# Altium integrated library Linear Technology PMIC-Switching Reg LTC1174-LTC3901.IntLib: 2647 symbols (part 193 of 310)
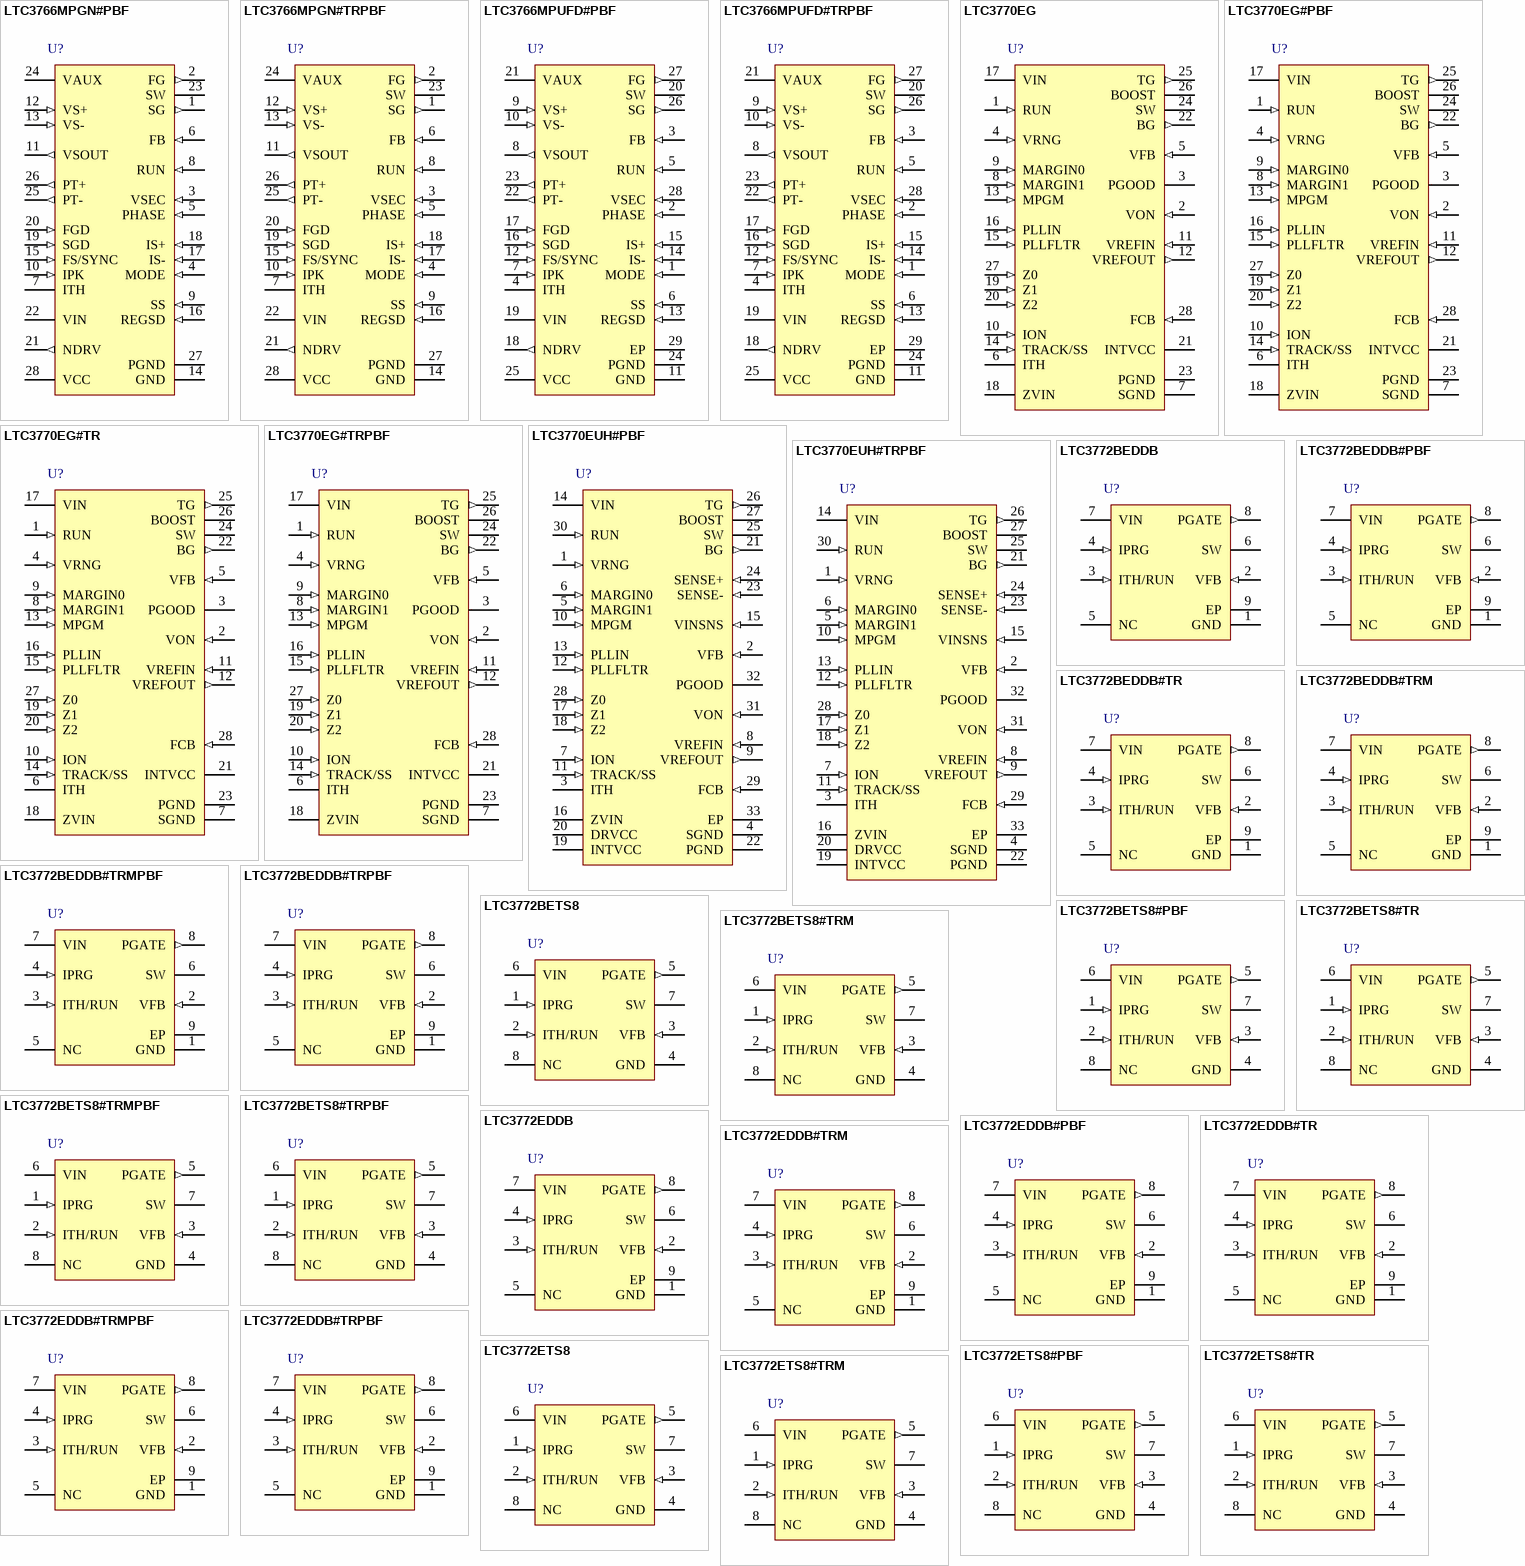
[diagram p228: symbols LTC3766MPGN#PBF to LTC3772ETS8#TRM]

## LTC3766MPGN#PBF
designator U?
High Efficiency, Secondary-Side Synchronous Forward Controller, 28-pin SOP (GN-28), -55 to 150 degC, Pb-Free; Manufacturer: Linear Technology; PartNumber: LTC3766MPGN#PBF; Number of Outputs: 1; PackageReference: GN-28; PackageDescription: 28-Pin Plastic SSOP, Body 9.9 x 3.9 mm, Pitch 0.635 mm; Supplier 1: Digi-Key; Supplier Part Number 1: LTC3766MPGN#PBF-ND; RoHS: TRUE
footprint LT-GN-28_N (SOP, 28-Leads, Body 9.98x3.98mm, Pitch 0.635mm, IPC Medium Density)
footprint LT-GN-28_L (SOP, 28-Leads, Body 9.98x3.98mm, Pitch 0.635mm, IPC High Density)
footprint LT-GN-28_M (SOP, 28-Leads, Body 9.98x3.98mm, Pitch 0.635mm, IPC Low Density)
pins: 1 SG (out) "Gate Drive for the Synchronous MOSFET", 2 FG (out) "Gate Drive for the Forward MOSFET", 3 VSEC (in) "Volt-Second Limit. Connect a resistor from SW to VSEC, and a capacitor from VSEC to GND to set the maximum volt-second product that is applied to the main power transformer. The PWM on-time is terminated when the VSEC (See Datasheet)", 4 MODE (in) "For normal isolated applications using the LTC3765, tie to either GND or VCC to set the operating voltage to either low voltage or high voltage modes respectively, as needed to drive the gates of the synchronous and forward (See Datasheet)", 5 PHASE (in) "Control Input to the Phase Selector. This pin determines the phasing of the internal controller CLK relative to the synchronizing signal at the FS/SYNC pin.", 6 FB (in) "The Inverting Input of the Main Loop Error Amplifier. Tie to VCC to enable slave mode in PolyPhase applications.", 7 ITH "The Output of the Main Loop Error Amplifier. Place compensation components between the ITH pin and GND.", 8 RUN (in) "Run Control Input. Holding this pin below 1.22V will shut down the IC and reset the soft-start and REGSD pins to 0V.", 9 SS (in) "Soft-Start Inputs. A capacitor to ground sets the ramp time of the output voltage", 10 IPK (in) "Peak Current Limit Inductor Ripple Cancellation. This pin is used to adjust the peak current limit based on the amount of inductor current ripple, thereby providing a constant average output current during current limit. (See Datasheet)", 11 VSOUT (out) "VSOUT is the output of a precision, unity-gain differential amplifier. Tie VS+ and VS- to the output of the main DC/DC converter to achieve true remote differential sensing. Also, VS+ is used for directly sensing the output (See Datasheet)", 12 VS+ (in) "VSOUT is the output of a precision, unity-gain differential amplifier. Tie VS+ and VS- to the output of the main DC/DC converter to achieve true remote differential sensing. Also, VS+ is used for directly sensing the output (See Datasheet)", 13 VS- (in) "VSOUT is the output of a precision, unity-gain differential amplifier. Tie VS+ and VS- to the output of the main DC/DC converter to achieve true remote differential sensing. Also, VS+ is used for directly sensing the output (See Datasheet)", 14 GND (power) "Signal Ground and Kelvin Sense for SG Reverse Overcurrent. Connect to power ground at the source of the synchronous MOSFET. The exposed pad must be soldered to PCB ground for rated thermal performance.", 15 FS/SYNC (in) "Combination Frequency Set and Sync Pin. Tie to VCC to run at 275kHz. Place a resistor to ground at this pin to set the frequency between 75kHz and 500kHz. To synchronize, drive this pin with a clock signal to achieve PLL (See Datasheet)", 16 REGSD (in) "Regulator Shutdown Timer. Place a capacitor to ground to limit the time allowed for the high voltage linear regulator controller to operate. When the REGSD voltage exceeds 1.21V, the linear regulator is shut down. This pin (See Datasheet)", 17 IS- (in) "Negative Input to the Current Sense Circuit. Connect to the negative end of a low side current sense resistor. When using a current sense transformer, tie this pin to VCC for single-ended sensing on IS+ with a higher maximum (See Datasheet)", 18 IS+ (in) "Positive Input to the Current Sense Circuit. Connect to the positive end of a low side current sense resistor or to the output of a current sense transformer.", 19 SGD (in) "Synchronous Gate Rising Edge Delay. A resistor to GND sets the delay from primary gate turnoff (PT+ falling) to SG rising (and FG falling). This delay is used to optimize the dead time between the turn-off of the (See Datasheet)", 20 FGD (in) "Forward Gate Rising Edge Delay. A resistor to GND sets the delay from PT+ rising to FG rising (and SG falling). This delay is used to optimize the dead time between the turn-off of SG and the turn-on of theprimary-side (See Datasheet)", 21 NDRV (out) "Drive Output for the External Pass Device of the High Voltage Linear Regulator Controller. Connect to the base (NPN) or gate (MOSFET) of an external N-type device. Tie to VCC pin if only using the internal LDO (VAUX pin).", 22 VIN (power) "Connect to a higher voltage bias supply when using the linear regulator controller. The VIN pin supplies bias to the internal standby and monitoring circuits, the linear regulator controller, and the differential amplifier. (See Datasheet)", 23 SW "Connect (Kelvin) to the drain of the synchronous MOSFET. This input is used for adaptive shoot-through prevention and leading-edge blanking, monitoring the high level SW node voltage and SG reversecurrent protection. When SW (See Datasheet)", 24 VAUX (power) "Auxiliary Power Input. This is the power input to an internal LDO that is connected to VCC. Whenever VAUX is greater than 4.7V (or 8V for high voltage mode), this LDO will supply power to VCC, bypassing the main linear (See Datasheet)", 25 PT- (out) "Pulse Transformer Driver Outputs. For most applications, these connect to a pulse transformer through a series DC-blocking capacitor. The PWM information is multiplexed together with DC power and sent through the pulse (See Datasheet)", 26 PT+ (out) "Pulse Transformer Driver Outputs. For most applications, these connect to a pulse transformer through a series DC-blocking capacitor. The PWM information is multiplexed together with DC power and sent through the pulse (See Datasheet)", 27 PGND (power) "Gate Driver Ground Pin. Connect to power ground at the source of the synchronous MOSFET.", 28 VCC (power) "Main VCC Input for All Driver and Control Circuitry."

## LTC3766MPGN#TRPBF
designator U?
High Efficiency, Secondary-Side Synchronous Forward Controller, 28-pin SOP (GN-28), -55 to 150 degC, Pb-Free, Tape and Reel; Manufacturer: Linear Technology; PartNumber: LTC3766MPGN#TRPBF; Number of Outputs: 1; PackageReference: GN-28; PackageDescription: 28-Pin Plastic SSOP, Body 9.9 x 3.9 mm, Pitch 0.635 mm; Supplier 1: Digi-Key; Supplier Part Number 1: LTC3766MPGN#TRPBF-ND; RoHS: TRUE
footprint LT-GN-28_N (SOP, 28-Leads, Body 9.98x3.98mm, Pitch 0.635mm, IPC Medium Density)
footprint LT-GN-28_L (SOP, 28-Leads, Body 9.98x3.98mm, Pitch 0.635mm, IPC High Density)
footprint LT-GN-28_M (SOP, 28-Leads, Body 9.98x3.98mm, Pitch 0.635mm, IPC Low Density)
pins: 1 SG (out) "Gate Drive for the Synchronous MOSFET", 2 FG (out) "Gate Drive for the Forward MOSFET", 3 VSEC (in) "Volt-Second Limit. Connect a resistor from SW to VSEC, and a capacitor from VSEC to GND to set the maximum volt-second product that is applied to the main power transformer. The PWM on-time is terminated when the VSEC (See Datasheet)", 4 MODE (in) "For normal isolated applications using the LTC3765, tie to either GND or VCC to set the operating voltage to either low voltage or high voltage modes respectively, as needed to drive the gates of the synchronous and forward (See Datasheet)", 5 PHASE (in) "Control Input to the Phase Selector. This pin determines the phasing of the internal controller CLK relative to the synchronizing signal at the FS/SYNC pin.", 6 FB (in) "The Inverting Input of the Main Loop Error Amplifier. Tie to VCC to enable slave mode in PolyPhase applications.", 7 ITH "The Output of the Main Loop Error Amplifier. Place compensation components between the ITH pin and GND.", 8 RUN (in) "Run Control Input. Holding this pin below 1.22V will shut down the IC and reset the soft-start and REGSD pins to 0V.", 9 SS (in) "Soft-Start Inputs. A capacitor to ground sets the ramp time of the output voltage", 10 IPK (in) "Peak Current Limit Inductor Ripple Cancellation. This pin is used to adjust the peak current limit based on the amount of inductor current ripple, thereby providing a constant average output current during current limit. (See Datasheet)", 11 VSOUT (out) "VSOUT is the output of a precision, unity-gain differential amplifier. Tie VS+ and VS- to the output of the main DC/DC converter to achieve true remote differential sensing. Also, VS+ is used for directly sensing the output (See Datasheet)", 12 VS+ (in) "VSOUT is the output of a precision, unity-gain differential amplifier. Tie VS+ and VS- to the output of the main DC/DC converter to achieve true remote differential sensing. Also, VS+ is used for directly sensing the output (See Datasheet)", 13 VS- (in) "VSOUT is the output of a precision, unity-gain differential amplifier. Tie VS+ and VS- to the output of the main DC/DC converter to achieve true remote differential sensing. Also, VS+ is used for directly sensing the output (See Datasheet)", 14 GND (power) "Signal Ground and Kelvin Sense for SG Reverse Overcurrent. Connect to power ground at the source of the synchronous MOSFET. The exposed pad must be soldered to PCB ground for rated thermal performance.", 15 FS/SYNC (in) "Combination Frequency Set and Sync Pin. Tie to VCC to run at 275kHz. Place a resistor to ground at this pin to set the frequency between 75kHz and 500kHz. To synchronize, drive this pin with a clock signal to achieve PLL (See Datasheet)", 16 REGSD (in) "Regulator Shutdown Timer. Place a capacitor to ground to limit the time allowed for the high voltage linear regulator controller to operate. When the REGSD voltage exceeds 1.21V, the linear regulator is shut down. This pin (See Datasheet)", 17 IS- (in) "Negative Input to the Current Sense Circuit. Connect to the negative end of a low side current sense resistor. When using a current sense transformer, tie this pin to VCC for single-ended sensing on IS+ with a higher maximum (See Datasheet)", 18 IS+ (in) "Positive Input to the Current Sense Circuit. Connect to the positive end of a low side current sense resistor or to the output of a current sense transformer.", 19 SGD (in) "Synchronous Gate Rising Edge Delay. A resistor to GND sets the delay from primary gate turnoff (PT+ falling) to SG rising (and FG falling). This delay is used to optimize the dead time between the turn-off of the (See Datasheet)", 20 FGD (in) "Forward Gate Rising Edge Delay. A resistor to GND sets the delay from PT+ rising to FG rising (and SG falling). This delay is used to optimize the dead time between the turn-off of SG and the turn-on of theprimary-side (See Datasheet)", 21 NDRV (out) "Drive Output for the External Pass Device of the High Voltage Linear Regulator Controller. Connect to the base (NPN) or gate (MOSFET) of an external N-type device. Tie to VCC pin if only using the internal LDO (VAUX pin).", 22 VIN (power) "Connect to a higher voltage bias supply when using the linear regulator controller. The VIN pin supplies bias to the internal standby and monitoring circuits, the linear regulator controller, and the differential amplifier. (See Datasheet)", 23 SW "Connect (Kelvin) to the drain of the synchronous MOSFET. This input is used for adaptive shoot-through prevention and leading-edge blanking, monitoring the high level SW node voltage and SG reversecurrent protection. When SW (See Datasheet)", 24 VAUX (power) "Auxiliary Power Input. This is the power input to an internal LDO that is connected to VCC. Whenever VAUX is greater than 4.7V (or 8V for high voltage mode), this LDO will supply power to VCC, bypassing the main linear (See Datasheet)", 25 PT- (out) "Pulse Transformer Driver Outputs. For most applications, these connect to a pulse transformer through a series DC-blocking capacitor. The PWM information is multiplexed together with DC power and sent through the pulse (See Datasheet)", 26 PT+ (out) "Pulse Transformer Driver Outputs. For most applications, these connect to a pulse transformer through a series DC-blocking capacitor. The PWM information is multiplexed together with DC power and sent through the pulse (See Datasheet)", 27 PGND (power) "Gate Driver Ground Pin. Connect to power ground at the source of the synchronous MOSFET.", 28 VCC (power) "Main VCC Input for All Driver and Control Circuitry."

## LTC3766MPUFD#PBF
designator U?
High Efficiency, Secondary-Side Synchronous Forward Controller, 28-pin QFN (UFD-28), -55 to 150 degC, Pb-Free; Manufacturer: Linear Technology; PartNumber: LTC3766MPUFD#PBF; Number of Outputs: 1; PackageReference: UFD-28; PackageDescription: 28-Pin Plastic QFN, Body 5 x 4 mm, Pitch 0.5 mm; Supplier 1: Digi-Key; Supplier Part Number 1: LTC3766MPUFD#PBF-ND; RoHS: TRUE; Code_JEDEC: MO-220
footprint LT-UFD-28_N (QFN, 28-Leads, Body 5.1x4.1mm, Pitch 0.5mm, Thermal Pad 3.65x2.65mm, IPC Medium Density)
footprint LT-UFD-28_L (QFN, 28-Leads, Body 5.1x4.1mm, Pitch 0.5mm, Thermal Pad 3.65x2.65mm, IPC High Density)
footprint LT-UFD-28_M (QFN, 28-Leads, Body 5.1x4.1mm, Pitch 0.5mm, Thermal Pad 3.65x2.65mm, IPC Low Density)
pins: 1 MODE (in) "For normal isolated applications using the LTC3765, tie to either GND or VCC to set the operating voltage to either low voltage or high voltage modes respectively, as needed to drive the gates of the synchronous and forward (See Datasheet)", 2 PHASE (in) "Control Input to the Phase Selector. This pin determines the phasing of the internal controller CLK relative to the synchronizing signal at the FS/SYNC pin.", 3 FB (in) "The Inverting Input of the Main Loop Error Amplifier. Tie to VCC to enable slave mode in PolyPhase applications.", 4 ITH "The Output of the Main Loop Error Amplifier. Place compensation components between the ITH pin and GND.", 5 RUN (in) "Run Control Input. Holding this pin below 1.22V will shut down the IC and reset the soft-start and REGSD pins to 0V.", 6 SS (in) "Soft-Start Inputs. A capacitor to ground sets the ramp time of the output voltage", 7 IPK (in) "Peak Current Limit Inductor Ripple Cancellation. This pin is used to adjust the peak current limit based on the amount of inductor current ripple, thereby providing a constant average output current during current limit. (See Datasheet)", 8 VSOUT (out) "VSOUT is the output of a precision, unity-gain differential amplifier. Tie VS+ and VS- to the output of the main DC/DC converter to achieve true remote differential sensing. Also, VS+ is used for directly sensing the output (See Datasheet)", 9 VS+ (in) "VSOUT is the output of a precision, unity-gain differential amplifier. Tie VS+ and VS- to the output of the main DC/DC converter to achieve true remote differential sensing. Also, VS+ is used for directly sensing the output (See Datasheet)", 10 VS- (in) "VSOUT is the output of a precision, unity-gain differential amplifier. Tie VS+ and VS- to the output of the main DC/DC converter to achieve true remote differential sensing. Also, VS+ is used for directly sensing the output (See Datasheet)", 11 GND (power) "Signal Ground and Kelvin Sense for SG Reverse Overcurrent. Connect to power ground at the source of the synchronous MOSFET. The exposed pad must be soldered to PCB ground for rated thermal performance.", 12 FS/SYNC (in) "Combination Frequency Set and Sync Pin. Tie to VCC to run at 275kHz. Place a resistor to ground at this pin to set the frequency between 75kHz and 500kHz. To synchronize, drive this pin with a clock signal to achieve PLL (See Datasheet)", 13 REGSD (in) "Regulator Shutdown Timer. Place a capacitor to ground to limit the time allowed for the high voltage linear regulator controller to operate. When the REGSD voltage exceeds 1.21V, the linear regulator is shut down. This pin (See Datasheet)", 14 IS- (in) "Negative Input to the Current Sense Circuit. Connect to the negative end of a low side current sense resistor. When using a current sense transformer, tie this pin to VCC for single-ended sensing on IS+ with a higher maximum (See Datasheet)", 15 IS+ (in) "Positive Input to the Current Sense Circuit. Connect to the positive end of a low side current sense resistor or to the output of a current sense transformer.", 16 SGD (in) "Synchronous Gate Rising Edge Delay. A resistor to GND sets the delay from primary gate turnoff (PT+ falling) to SG rising (and FG falling). This delay is used to optimize the dead time between the turn-off of the (See Datasheet)", 17 FGD (in) "Forward Gate Rising Edge Delay. A resistor to GND sets the delay from PT+ rising to FG rising (and SG falling). This delay is used to optimize the dead time between the turn-off of SG and the turn-on of theprimary-side (See Datasheet)", 18 NDRV (out) "Drive Output for the External Pass Device of the High Voltage Linear Regulator Controller. Connect to the base (NPN) or gate (MOSFET) of an external N-type device. Tie to VCC pin if only using the internal LDO (VAUX pin).", 19 VIN (power) "Connect to a higher voltage bias supply when using the linear regulator controller. The VIN pin supplies bias to the internal standby and monitoring circuits, the linear regulator controller, and the differential amplifier. (See Datasheet)", 20 SW "Connect (Kelvin) to the drain of the synchronous MOSFET. This input is used for adaptive shoot-through prevention and leading-edge blanking, monitoring the high level SW node voltage and SG reversecurrent protection. When SW (See Datasheet)", 21 VAUX (power) "Auxiliary Power Input. This is the power input to an internal LDO that is connected to VCC. Whenever VAUX is greater than 4.7V (or 8V for high voltage mode), this LDO will supply power to VCC, bypassing the main linear (See Datasheet)", 22 PT- (out) "Pulse Transformer Driver Outputs. For most applications, these connect to a pulse transformer through a series DC-blocking capacitor. The PWM information is multiplexed together with DC power and sent through the pulse (See Datasheet)", 23 PT+ (out) "Pulse Transformer Driver Outputs. For most applications, these connect to a pulse transformer through a series DC-blocking capacitor. The PWM information is multiplexed together with DC power and sent through the pulse (See Datasheet)", 24 PGND (power) "Gate Driver Ground Pin. Connect to power ground at the source of the synchronous MOSFET.", 25 VCC (power) "Main VCC Input for All Driver and Control Circuitry.", 26 SG (out) "Gate Drive for the Synchronous MOSFET", 27 FG (out) "Gate Drive for the Forward MOSFET", 28 VSEC (in) "Volt-Second Limit. Connect a resistor from SW to VSEC, and a capacitor from VSEC to GND to set the maximum volt-second product that is applied to the main power transformer. The PWM on-time is terminated when the VSEC (See Datasheet)", 29 EP (power) "Signal Ground and Kelvin Sense for SG Reverse Overcurrent. Connect to power ground at the source of the synchronous MOSFET. The exposed pad must be soldered to PCB ground for rated thermal performance."

## LTC3766MPUFD#TRPBF
designator U?
High Efficiency, Secondary-Side Synchronous Forward Controller, 28-pin QFN (UFD-28), -55 to 150 degC, Pb-Free, Tape and Reel; Manufacturer: Linear Technology; PartNumber: LTC3766MPUFD#TRPBF; Number of Outputs: 1; PackageReference: UFD-28; PackageDescription: 28-Pin Plastic QFN, Body 5 x 4 mm, Pitch 0.5 mm; Supplier 1: Digi-Key; Supplier Part Number 1: LTC3766MPUFD#TRPBF-ND; RoHS: TRUE; Code_JEDEC: MO-220
footprint LT-UFD-28_N (QFN, 28-Leads, Body 5.1x4.1mm, Pitch 0.5mm, Thermal Pad 3.65x2.65mm, IPC Medium Density)
footprint LT-UFD-28_L (QFN, 28-Leads, Body 5.1x4.1mm, Pitch 0.5mm, Thermal Pad 3.65x2.65mm, IPC High Density)
footprint LT-UFD-28_M (QFN, 28-Leads, Body 5.1x4.1mm, Pitch 0.5mm, Thermal Pad 3.65x2.65mm, IPC Low Density)
pins: 1 MODE (in) "For normal isolated applications using the LTC3765, tie to either GND or VCC to set the operating voltage to either low voltage or high voltage modes respectively, as needed to drive the gates of the synchronous and forward (See Datasheet)", 2 PHASE (in) "Control Input to the Phase Selector. This pin determines the phasing of the internal controller CLK relative to the synchronizing signal at the FS/SYNC pin.", 3 FB (in) "The Inverting Input of the Main Loop Error Amplifier. Tie to VCC to enable slave mode in PolyPhase applications.", 4 ITH "The Output of the Main Loop Error Amplifier. Place compensation components between the ITH pin and GND.", 5 RUN (in) "Run Control Input. Holding this pin below 1.22V will shut down the IC and reset the soft-start and REGSD pins to 0V.", 6 SS (in) "Soft-Start Inputs. A capacitor to ground sets the ramp time of the output voltage", 7 IPK (in) "Peak Current Limit Inductor Ripple Cancellation. This pin is used to adjust the peak current limit based on the amount of inductor current ripple, thereby providing a constant average output current during current limit. (See Datasheet)", 8 VSOUT (out) "VSOUT is the output of a precision, unity-gain differential amplifier. Tie VS+ and VS- to the output of the main DC/DC converter to achieve true remote differential sensing. Also, VS+ is used for directly sensing the output (See Datasheet)", 9 VS+ (in) "VSOUT is the output of a precision, unity-gain differential amplifier. Tie VS+ and VS- to the output of the main DC/DC converter to achieve true remote differential sensing. Also, VS+ is used for directly sensing the output (See Datasheet)", 10 VS- (in) "VSOUT is the output of a precision, unity-gain differential amplifier. Tie VS+ and VS- to the output of the main DC/DC converter to achieve true remote differential sensing. Also, VS+ is used for directly sensing the output (See Datasheet)", 11 GND (power) "Signal Ground and Kelvin Sense for SG Reverse Overcurrent. Connect to power ground at the source of the synchronous MOSFET. The exposed pad must be soldered to PCB ground for rated thermal performance.", 12 FS/SYNC (in) "Combination Frequency Set and Sync Pin. Tie to VCC to run at 275kHz. Place a resistor to ground at this pin to set the frequency between 75kHz and 500kHz. To synchronize, drive this pin with a clock signal to achieve PLL (See Datasheet)", 13 REGSD (in) "Regulator Shutdown Timer. Place a capacitor to ground to limit the time allowed for the high voltage linear regulator controller to operate. When the REGSD voltage exceeds 1.21V, the linear regulator is shut down. This pin (See Datasheet)", 14 IS- (in) "Negative Input to the Current Sense Circuit. Connect to the negative end of a low side current sense resistor. When using a current sense transformer, tie this pin to VCC for single-ended sensing on IS+ with a higher maximum (See Datasheet)", 15 IS+ (in) "Positive Input to the Current Sense Circuit. Connect to the positive end of a low side current sense resistor or to the output of a current sense transformer.", 16 SGD (in) "Synchronous Gate Rising Edge Delay. A resistor to GND sets the delay from primary gate turnoff (PT+ falling) to SG rising (and FG falling). This delay is used to optimize the dead time between the turn-off of the (See Datasheet)", 17 FGD (in) "Forward Gate Rising Edge Delay. A resistor to GND sets the delay from PT+ rising to FG rising (and SG falling). This delay is used to optimize the dead time between the turn-off of SG and the turn-on of theprimary-side (See Datasheet)", 18 NDRV (out) "Drive Output for the External Pass Device of the High Voltage Linear Regulator Controller. Connect to the base (NPN) or gate (MOSFET) of an external N-type device. Tie to VCC pin if only using the internal LDO (VAUX pin).", 19 VIN (power) "Connect to a higher voltage bias supply when using the linear regulator controller. The VIN pin supplies bias to the internal standby and monitoring circuits, the linear regulator controller, and the differential amplifier. (See Datasheet)", 20 SW "Connect (Kelvin) to the drain of the synchronous MOSFET. This input is used for adaptive shoot-through prevention and leading-edge blanking, monitoring the high level SW node voltage and SG reversecurrent protection. When SW (See Datasheet)", 21 VAUX (power) "Auxiliary Power Input. This is the power input to an internal LDO that is connected to VCC. Whenever VAUX is greater than 4.7V (or 8V for high voltage mode), this LDO will supply power to VCC, bypassing the main linear (See Datasheet)", 22 PT- (out) "Pulse Transformer Driver Outputs. For most applications, these connect to a pulse transformer through a series DC-blocking capacitor. The PWM information is multiplexed together with DC power and sent through the pulse (See Datasheet)", 23 PT+ (out) "Pulse Transformer Driver Outputs. For most applications, these connect to a pulse transformer through a series DC-blocking capacitor. The PWM information is multiplexed together with DC power and sent through the pulse (See Datasheet)", 24 PGND (power) "Gate Driver Ground Pin. Connect to power ground at the source of the synchronous MOSFET.", 25 VCC (power) "Main VCC Input for All Driver and Control Circuitry.", 26 SG (out) "Gate Drive for the Synchronous MOSFET", 27 FG (out) "Gate Drive for the Forward MOSFET", 28 VSEC (in) "Volt-Second Limit. Connect a resistor from SW to VSEC, and a capacitor from VSEC to GND to set the maximum volt-second product that is applied to the main power transformer. The PWM on-time is terminated when the VSEC (See Datasheet)", 29 EP (power) "Signal Ground and Kelvin Sense for SG Reverse Overcurrent. Connect to power ground at the source of the synchronous MOSFET. The exposed pad must be soldered to PCB ground for rated thermal performance."

## LTC3770EG
designator U?
Fast No Rsense Step-Down Synchronous Controller with Margining, Tracking and PLL, 28-pin SOP (G-28), -40 to 85 degC; Manufacturer: Linear Technology; PartNumber: LTC3770EG; Number of Outputs: 1; PackageReference: G-28; PackageDescription: 28-Pin Plastic SSOP, Body 10.2 x 5.3 mm, Pitch 0.65 mm; RoHS: FALSE
footprint LT-G-28_N (SOP, 28-Leads, Body 10.2x5.3mm, Pitch 0.65mm, IPC Medium Density)
footprint LT-G-28_L (SOP, 28-Leads, Body 10.2x5.3mm, Pitch 0.65mm, IPC High Density)
footprint LT-G-28_M (SOP, 28-Leads, Body 10.2x5.3mm, Pitch 0.65mm, IPC Low Density)
pins: 1 RUN (in) "Run Control Input. A voltage above 1.5V turns on the IC. Forcing this pin below 1.5V shuts down the device.", 2 VON (in) "On-Time Voltage Input. Connecting this pin to the output voltage makes the on-time proportional to VOUT. The comparator input defaults to 0.6V when the pin is grounded and defaults to 4.8V when the pin is tied to INTVCC.", 3 PGOOD (oc) "Power Good Output. Open drain logic output that is pulled to ground when the output voltage is not within +/-10% of the regulation point, after the internal 25us power bad mask timer expires.", 4 VRNG (in) "Sense Voltage Range Input. The voltage at this pin is ten times the nominal sense voltage at maximum output current and can be set from 0.5V to 2V by a resistive divider from INTVCC. The nominal sense voltage defaults to (See Datasheet)", 5 VFB (in) "Error Amplifier Feedback Input. This pin connects the error amplifier input to an external resistive divider from VOUT.", 6 ITH "Current Control Threshold and Error Amplifier Compensation Point. The current comparator threshold increases with this control voltage. The voltage ranges from 0V to 2.4V with 0.75V corresponding to zero sense voltage (zero (See Datasheet)", 7 SGND (power) "Signal Ground. All small-signal components and compensation components should connect to this ground, which in turn connects to PGND at one point.", 8 MARGIN1 (in) "The MSB Logic Input for the Margining Function. Together with the MARGIN0 pin determines whether the IC is in margin high, margin low, or no margin state. This pin has a 50k internal pull-down resistor.", 9 MARGIN0 (in) "The LSB Logic Input for the Margining Function. Together with the MARGIN1 pin determines whether the IC is in margin high, margin low, or no margin state. This pin has a 50k internal pull-down resistor.", 10 ION (in) "On-Time Current Input. Tie a resistor from this pin to ground to set the one-shot timer current and thereby set the switching frequency.", 11 VREFIN (in) "Error Amplifier Reference Input. The voltage at this pin must be greater than 0.5V and less than 1V.", 12 VREFOUT (out) "Buffered Internal 0.6V Reference Output. The maximum current sinking limit is 50uA at this pin. Do not put a filter capacitor larger than 100pF on this pin.", 13 MPGM (in) "Programmable Margining Input. A resistor from this pin to ground sets the margining current. This current, together with the resistor between the VREFOUT and VREFIN pins, determines the margining voltage offset.", 14 TRACK/SS (in) "Output Voltage Tracking and Soft-Start Input. When the IC is confi gured to be the master of two outputs, a capacitor to ground at this pin sets the ramp rate for the output voltage. When the IC is configured to be the slave (See Datasheet)", 15 PLLFLTR (in) "The Phase-Locked Loop’s Lowpass Filter is Tied to This Pin. The voltage at this pin defaults to 1.18V when the IC is not synchronized with an external clock at the PLLIN pin.", 16 PLLIN (in) "External Synchronization Input to Phase Detector. This pin is internally terminated to SGND with a 50k resistor.", 17 VIN (power) "Main Input Supply. Decouple this pin to PGND with a capacitor (0.1uF to 1uF).", 18 ZVIN (power) "Post-Package Zener-Trim Voltage Input. Under normal conditions this pin should always be connected to INTVCC.", 19 Z1 (in) "Post-Package Zener-Trim Control. This pin is a multifunctional pin used in production for post-package trimming and tracking. Ground this pin under normal soft-start operation. Connecting this pin to INTVCC will turn off the (See Datasheet)", 20 Z2 (in) "Post-Package Zener-Trim Control. This pin is used in production for Post-Package trimming. Ground this pin or tie to INTVCC under normal operation.", 21 INTVCC (power) "Internal 5V Regulator Output. The control circuits are powered from this voltage. Decouple this pin to PGND with a minimum of 4.7uF low ESR tantalum or ceramic capacitor.", 22 BG (out) "Bottom Gate Driver Output. This pin drives the gate of the bottom N-channel MOSFET between ground and INTVCC.", 23 PGND (power) "Power Ground. Connect this pin closely to the source of the bottom N-channel MOSFET, the (-) terminal of CVCC and the (-) terminal of CIN.", 24 SW "Switch Node. The (-) terminal of the boot-strap capacitor CB connects here. This pin swings from a diode voltage drop below ground up to VIN.", 25 TG (out) "Top Gate Drive Output. This pin drives the top N-channel MOSFET with a voltage swing equal to INTVCC, superimposed on the switch node voltage SW.", 26 BOOST "Boosted Floating Driver Supply. The (+) terminal of the boot-strap capacitor CB connects here. This pin swings from a diode voltage drop below INTVCC up to VIN + INTVCC.", 27 Z0 (in) "Dead Time Control Input. Applying a DC voltage will vary the dead time between TG-Low and BG-High transition. Do not force a voltage higher than 5V on this pin.", 28 FCB (in) "Forced Continuous Input. Connect this pin to SGND to forced continuous synchronization operation at low load, to INTVCC to enable discontinuous mode operation at low load or to a resistive divider from a secondary output (See Datasheet)"

## LTC3770EG#PBF
designator U?
Fast No Rsense Step-Down Synchronous Controller with Margining, Tracking and PLL, 28-pin SOP (G-28), -40 to 85 degC, Pb-Free; Manufacturer: Linear Technology; PartNumber: LTC3770EG#PBF; Number of Outputs: 1; PackageReference: G-28; PackageDescription: 28-Pin Plastic SSOP, Body 10.2 x 5.3 mm, Pitch 0.65 mm; Supplier 1: Digi-Key; Supplier Part Number 1: LTC3770EG#PBF-ND; RoHS: TRUE
footprint LT-G-28_N (SOP, 28-Leads, Body 10.2x5.3mm, Pitch 0.65mm, IPC Medium Density)
footprint LT-G-28_L (SOP, 28-Leads, Body 10.2x5.3mm, Pitch 0.65mm, IPC High Density)
footprint LT-G-28_M (SOP, 28-Leads, Body 10.2x5.3mm, Pitch 0.65mm, IPC Low Density)
pins: 1 RUN (in) "Run Control Input. A voltage above 1.5V turns on the IC. Forcing this pin below 1.5V shuts down the device.", 2 VON (in) "On-Time Voltage Input. Connecting this pin to the output voltage makes the on-time proportional to VOUT. The comparator input defaults to 0.6V when the pin is grounded and defaults to 4.8V when the pin is tied to INTVCC.", 3 PGOOD (oc) "Power Good Output. Open drain logic output that is pulled to ground when the output voltage is not within +/-10% of the regulation point, after the internal 25us power bad mask timer expires.", 4 VRNG (in) "Sense Voltage Range Input. The voltage at this pin is ten times the nominal sense voltage at maximum output current and can be set from 0.5V to 2V by a resistive divider from INTVCC. The nominal sense voltage defaults to (See Datasheet)", 5 VFB (in) "Error Amplifier Feedback Input. This pin connects the error amplifier input to an external resistive divider from VOUT.", 6 ITH "Current Control Threshold and Error Amplifier Compensation Point. The current comparator threshold increases with this control voltage. The voltage ranges from 0V to 2.4V with 0.75V corresponding to zero sense voltage (zero (See Datasheet)", 7 SGND (power) "Signal Ground. All small-signal components and compensation components should connect to this ground, which in turn connects to PGND at one point.", 8 MARGIN1 (in) "The MSB Logic Input for the Margining Function. Together with the MARGIN0 pin determines whether the IC is in margin high, margin low, or no margin state. This pin has a 50k internal pull-down resistor.", 9 MARGIN0 (in) "The LSB Logic Input for the Margining Function. Together with the MARGIN1 pin determines whether the IC is in margin high, margin low, or no margin state. This pin has a 50k internal pull-down resistor.", 10 ION (in) "On-Time Current Input. Tie a resistor from this pin to ground to set the one-shot timer current and thereby set the switching frequency.", 11 VREFIN (in) "Error Amplifier Reference Input. The voltage at this pin must be greater than 0.5V and less than 1V.", 12 VREFOUT (out) "Buffered Internal 0.6V Reference Output. The maximum current sinking limit is 50uA at this pin. Do not put a filter capacitor larger than 100pF on this pin.", 13 MPGM (in) "Programmable Margining Input. A resistor from this pin to ground sets the margining current. This current, together with the resistor between the VREFOUT and VREFIN pins, determines the margining voltage offset.", 14 TRACK/SS (in) "Output Voltage Tracking and Soft-Start Input. When the IC is confi gured to be the master of two outputs, a capacitor to ground at this pin sets the ramp rate for the output voltage. When the IC is configured to be the slave (See Datasheet)", 15 PLLFLTR (in) "The Phase-Locked Loop’s Lowpass Filter is Tied to This Pin. The voltage at this pin defaults to 1.18V when the IC is not synchronized with an external clock at the PLLIN pin.", 16 PLLIN (in) "External Synchronization Input to Phase Detector. This pin is internally terminated to SGND with a 50k resistor.", 17 VIN (power) "Main Input Supply. Decouple this pin to PGND with a capacitor (0.1uF to 1uF).", 18 ZVIN (power) "Post-Package Zener-Trim Voltage Input. Under normal conditions this pin should always be connected to INTVCC.", 19 Z1 (in) "Post-Package Zener-Trim Control. This pin is a multifunctional pin used in production for post-package trimming and tracking. Ground this pin under normal soft-start operation. Connecting this pin to INTVCC will turn off the (See Datasheet)", 20 Z2 (in) "Post-Package Zener-Trim Control. This pin is used in production for Post-Package trimming. Ground this pin or tie to INTVCC under normal operation.", 21 INTVCC (power) "Internal 5V Regulator Output. The control circuits are powered from this voltage. Decouple this pin to PGND with a minimum of 4.7uF low ESR tantalum or ceramic capacitor.", 22 BG (out) "Bottom Gate Driver Output. This pin drives the gate of the bottom N-channel MOSFET between ground and INTVCC.", 23 PGND (power) "Power Ground. Connect this pin closely to the source of the bottom N-channel MOSFET, the (-) terminal of CVCC and the (-) terminal of CIN.", 24 SW "Switch Node. The (-) terminal of the boot-strap capacitor CB connects here. This pin swings from a diode voltage drop below ground up to VIN.", 25 TG (out) "Top Gate Drive Output. This pin drives the top N-channel MOSFET with a voltage swing equal to INTVCC, superimposed on the switch node voltage SW.", 26 BOOST "Boosted Floating Driver Supply. The (+) terminal of the boot-strap capacitor CB connects here. This pin swings from a diode voltage drop below INTVCC up to VIN + INTVCC.", 27 Z0 (in) "Dead Time Control Input. Applying a DC voltage will vary the dead time between TG-Low and BG-High transition. Do not force a voltage higher than 5V on this pin.", 28 FCB (in) "Forced Continuous Input. Connect this pin to SGND to forced continuous synchronization operation at low load, to INTVCC to enable discontinuous mode operation at low load or to a resistive divider from a secondary output (See Datasheet)"

## LTC3770EG#TR
designator U?
Fast No Rsense Step-Down Synchronous Controller with Margining, Tracking and PLL, 28-pin SOP (G-28), -40 to 85 degC, Tape and Reel; Manufacturer: Linear Technology; PartNumber: LTC3770EG#TR; Number of Outputs: 1; PackageReference: G-28; PackageDescription: 28-Pin Plastic SSOP, Body 10.2 x 5.3 mm, Pitch 0.65 mm; RoHS: FALSE
footprint LT-G-28_N (SOP, 28-Leads, Body 10.2x5.3mm, Pitch 0.65mm, IPC Medium Density)
footprint LT-G-28_L (SOP, 28-Leads, Body 10.2x5.3mm, Pitch 0.65mm, IPC High Density)
footprint LT-G-28_M (SOP, 28-Leads, Body 10.2x5.3mm, Pitch 0.65mm, IPC Low Density)
pins: 1 RUN (in) "Run Control Input. A voltage above 1.5V turns on the IC. Forcing this pin below 1.5V shuts down the device.", 2 VON (in) "On-Time Voltage Input. Connecting this pin to the output voltage makes the on-time proportional to VOUT. The comparator input defaults to 0.6V when the pin is grounded and defaults to 4.8V when the pin is tied to INTVCC.", 3 PGOOD (oc) "Power Good Output. Open drain logic output that is pulled to ground when the output voltage is not within +/-10% of the regulation point, after the internal 25us power bad mask timer expires.", 4 VRNG (in) "Sense Voltage Range Input. The voltage at this pin is ten times the nominal sense voltage at maximum output current and can be set from 0.5V to 2V by a resistive divider from INTVCC. The nominal sense voltage defaults to (See Datasheet)", 5 VFB (in) "Error Amplifier Feedback Input. This pin connects the error amplifier input to an external resistive divider from VOUT.", 6 ITH "Current Control Threshold and Error Amplifier Compensation Point. The current comparator threshold increases with this control voltage. The voltage ranges from 0V to 2.4V with 0.75V corresponding to zero sense voltage (zero (See Datasheet)", 7 SGND (power) "Signal Ground. All small-signal components and compensation components should connect to this ground, which in turn connects to PGND at one point.", 8 MARGIN1 (in) "The MSB Logic Input for the Margining Function. Together with the MARGIN0 pin determines whether the IC is in margin high, margin low, or no margin state. This pin has a 50k internal pull-down resistor.", 9 MARGIN0 (in) "The LSB Logic Input for the Margining Function. Together with the MARGIN1 pin determines whether the IC is in margin high, margin low, or no margin state. This pin has a 50k internal pull-down resistor.", 10 ION (in) "On-Time Current Input. Tie a resistor from this pin to ground to set the one-shot timer current and thereby set the switching frequency.", 11 VREFIN (in) "Error Amplifier Reference Input. The voltage at this pin must be greater than 0.5V and less than 1V.", 12 VREFOUT (out) "Buffered Internal 0.6V Reference Output. The maximum current sinking limit is 50uA at this pin. Do not put a filter capacitor larger than 100pF on this pin.", 13 MPGM (in) "Programmable Margining Input. A resistor from this pin to ground sets the margining current. This current, together with the resistor between the VREFOUT and VREFIN pins, determines the margining voltage offset.", 14 TRACK/SS (in) "Output Voltage Tracking and Soft-Start Input. When the IC is confi gured to be the master of two outputs, a capacitor to ground at this pin sets the ramp rate for the output voltage. When the IC is configured to be the slave (See Datasheet)", 15 PLLFLTR (in) "The Phase-Locked Loop’s Lowpass Filter is Tied to This Pin. The voltage at this pin defaults to 1.18V when the IC is not synchronized with an external clock at the PLLIN pin.", 16 PLLIN (in) "External Synchronization Input to Phase Detector. This pin is internally terminated to SGND with a 50k resistor.", 17 VIN (power) "Main Input Supply. Decouple this pin to PGND with a capacitor (0.1uF to 1uF).", 18 ZVIN (power) "Post-Package Zener-Trim Voltage Input. Under normal conditions this pin should always be connected to INTVCC.", 19 Z1 (in) "Post-Package Zener-Trim Control. This pin is a multifunctional pin used in production for post-package trimming and tracking. Ground this pin under normal soft-start operation. Connecting this pin to INTVCC will turn off the (See Datasheet)", 20 Z2 (in) "Post-Package Zener-Trim Control. This pin is used in production for Post-Package trimming. Ground this pin or tie to INTVCC under normal operation.", 21 INTVCC (power) "Internal 5V Regulator Output. The control circuits are powered from this voltage. Decouple this pin to PGND with a minimum of 4.7uF low ESR tantalum or ceramic capacitor.", 22 BG (out) "Bottom Gate Driver Output. This pin drives the gate of the bottom N-channel MOSFET between ground and INTVCC.", 23 PGND (power) "Power Ground. Connect this pin closely to the source of the bottom N-channel MOSFET, the (-) terminal of CVCC and the (-) terminal of CIN.", 24 SW "Switch Node. The (-) terminal of the boot-strap capacitor CB connects here. This pin swings from a diode voltage drop below ground up to VIN.", 25 TG (out) "Top Gate Drive Output. This pin drives the top N-channel MOSFET with a voltage swing equal to INTVCC, superimposed on the switch node voltage SW.", 26 BOOST "Boosted Floating Driver Supply. The (+) terminal of the boot-strap capacitor CB connects here. This pin swings from a diode voltage drop below INTVCC up to VIN + INTVCC.", 27 Z0 (in) "Dead Time Control Input. Applying a DC voltage will vary the dead time between TG-Low and BG-High transition. Do not force a voltage higher than 5V on this pin.", 28 FCB (in) "Forced Continuous Input. Connect this pin to SGND to forced continuous synchronization operation at low load, to INTVCC to enable discontinuous mode operation at low load or to a resistive divider from a secondary output (See Datasheet)"

## LTC3770EG#TRPBF
designator U?
Fast No Rsense Step-Down Synchronous Controller with Margining, Tracking and PLL, 28-pin SOP (G-28), -40 to 85 degC, Pb-Free, Tape and Reel; Manufacturer: Linear Technology; PartNumber: LTC3770EG#TRPBF; Number of Outputs: 1; PackageReference: G-28; PackageDescription: 28-Pin Plastic SSOP, Body 10.2 x 5.3 mm, Pitch 0.65 mm; Supplier 1: Digi-Key; Supplier Part Number 1: LTC3770EG#TRPBF-ND; RoHS: TRUE
footprint LT-G-28_N (SOP, 28-Leads, Body 10.2x5.3mm, Pitch 0.65mm, IPC Medium Density)
footprint LT-G-28_L (SOP, 28-Leads, Body 10.2x5.3mm, Pitch 0.65mm, IPC High Density)
footprint LT-G-28_M (SOP, 28-Leads, Body 10.2x5.3mm, Pitch 0.65mm, IPC Low Density)
pins: 1 RUN (in) "Run Control Input. A voltage above 1.5V turns on the IC. Forcing this pin below 1.5V shuts down the device.", 2 VON (in) "On-Time Voltage Input. Connecting this pin to the output voltage makes the on-time proportional to VOUT. The comparator input defaults to 0.6V when the pin is grounded and defaults to 4.8V when the pin is tied to INTVCC.", 3 PGOOD (oc) "Power Good Output. Open drain logic output that is pulled to ground when the output voltage is not within +/-10% of the regulation point, after the internal 25us power bad mask timer expires.", 4 VRNG (in) "Sense Voltage Range Input. The voltage at this pin is ten times the nominal sense voltage at maximum output current and can be set from 0.5V to 2V by a resistive divider from INTVCC. The nominal sense voltage defaults to (See Datasheet)", 5 VFB (in) "Error Amplifier Feedback Input. This pin connects the error amplifier input to an external resistive divider from VOUT.", 6 ITH "Current Control Threshold and Error Amplifier Compensation Point. The current comparator threshold increases with this control voltage. The voltage ranges from 0V to 2.4V with 0.75V corresponding to zero sense voltage (zero (See Datasheet)", 7 SGND (power) "Signal Ground. All small-signal components and compensation components should connect to this ground, which in turn connects to PGND at one point.", 8 MARGIN1 (in) "The MSB Logic Input for the Margining Function. Together with the MARGIN0 pin determines whether the IC is in margin high, margin low, or no margin state. This pin has a 50k internal pull-down resistor.", 9 MARGIN0 (in) "The LSB Logic Input for the Margining Function. Together with the MARGIN1 pin determines whether the IC is in margin high, margin low, or no margin state. This pin has a 50k internal pull-down resistor.", 10 ION (in) "On-Time Current Input. Tie a resistor from this pin to ground to set the one-shot timer current and thereby set the switching frequency.", 11 VREFIN (in) "Error Amplifier Reference Input. The voltage at this pin must be greater than 0.5V and less than 1V.", 12 VREFOUT (out) "Buffered Internal 0.6V Reference Output. The maximum current sinking limit is 50uA at this pin. Do not put a filter capacitor larger than 100pF on this pin.", 13 MPGM (in) "Programmable Margining Input. A resistor from this pin to ground sets the margining current. This current, together with the resistor between the VREFOUT and VREFIN pins, determines the margining voltage offset.", 14 TRACK/SS (in) "Output Voltage Tracking and Soft-Start Input. When the IC is confi gured to be the master of two outputs, a capacitor to ground at this pin sets the ramp rate for the output voltage. When the IC is configured to be the slave (See Datasheet)", 15 PLLFLTR (in) "The Phase-Locked Loop’s Lowpass Filter is Tied to This Pin. The voltage at this pin defaults to 1.18V when the IC is not synchronized with an external clock at the PLLIN pin.", 16 PLLIN (in) "External Synchronization Input to Phase Detector. This pin is internally terminated to SGND with a 50k resistor.", 17 VIN (power) "Main Input Supply. Decouple this pin to PGND with a capacitor (0.1uF to 1uF).", 18 ZVIN (power) "Post-Package Zener-Trim Voltage Input. Under normal conditions this pin should always be connected to INTVCC.", 19 Z1 (in) "Post-Package Zener-Trim Control. This pin is a multifunctional pin used in production for post-package trimming and tracking. Ground this pin under normal soft-start operation. Connecting this pin to INTVCC will turn off the (See Datasheet)", 20 Z2 (in) "Post-Package Zener-Trim Control. This pin is used in production for Post-Package trimming. Ground this pin or tie to INTVCC under normal operation.", 21 INTVCC (power) "Internal 5V Regulator Output. The control circuits are powered from this voltage. Decouple this pin to PGND with a minimum of 4.7uF low ESR tantalum or ceramic capacitor.", 22 BG (out) "Bottom Gate Driver Output. This pin drives the gate of the bottom N-channel MOSFET between ground and INTVCC.", 23 PGND (power) "Power Ground. Connect this pin closely to the source of the bottom N-channel MOSFET, the (-) terminal of CVCC and the (-) terminal of CIN.", 24 SW "Switch Node. The (-) terminal of the boot-strap capacitor CB connects here. This pin swings from a diode voltage drop below ground up to VIN.", 25 TG (out) "Top Gate Drive Output. This pin drives the top N-channel MOSFET with a voltage swing equal to INTVCC, superimposed on the switch node voltage SW.", 26 BOOST "Boosted Floating Driver Supply. The (+) terminal of the boot-strap capacitor CB connects here. This pin swings from a diode voltage drop below INTVCC up to VIN + INTVCC.", 27 Z0 (in) "Dead Time Control Input. Applying a DC voltage will vary the dead time between TG-Low and BG-High transition. Do not force a voltage higher than 5V on this pin.", 28 FCB (in) "Forced Continuous Input. Connect this pin to SGND to forced continuous synchronization operation at low load, to INTVCC to enable discontinuous mode operation at low load or to a resistive divider from a secondary output (See Datasheet)"